# EAGLE library part OLIMEX-ENC28J60-H (library wsn)
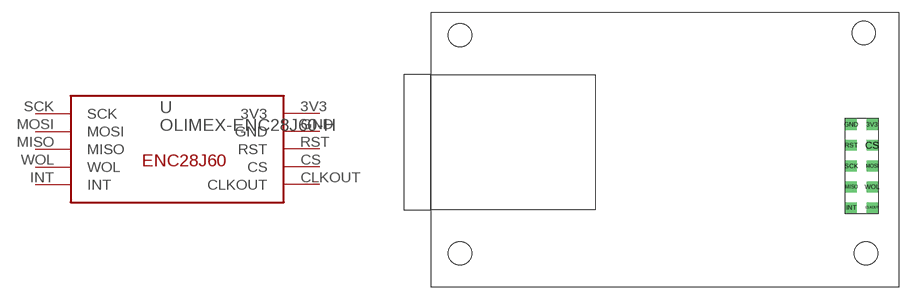
[diagram p269: symbol with the pads of OLIMEX-ENC28J60-H; footprint OLIMEX-ENC28J60-H]

Designator prefix -

## OLIMEX-ENC28J60-H  [OLIMEX-ENC28J60-H]
3V3  3V3  pwr
CLKOUT  CLKOUT  out
CS  CS  in
GND  GND  pwr
INT  INT  out
MISO  MISO  out
MOSI  MOSI  in
RST  RST  in
SCK  SCK  in
WOL  WOL  out

## Footprint OLIMEX-ENC28J60-H (pad centres in mm)
drill 0.8 square: 3V3 43.688,-2.286; CLKOUT 43.688,-12.446; CS 43.688,-4.826; GND 41.148,-2.286; INT 41.148,-12.446; MISO 41.148,-9.906; MOSI 43.688,-7.366; RST 41.148,-4.826; SCK 41.148,-7.366; WOL 43.688,-9.906